# Altium footprint library IC_Microchip_MCP3008I-P_eec_0.PcbLib: 1 footprints
Each footprint in its own frame and in the unit in brackets; x right, y up, seen from the top. Pads: shape width x height; smd on the part's side, far side on the other; paste and mask are expansions set on the pad; w line width, h text height; cw(c..) or ccw(c..) is an arc to the next point about the centre after c.
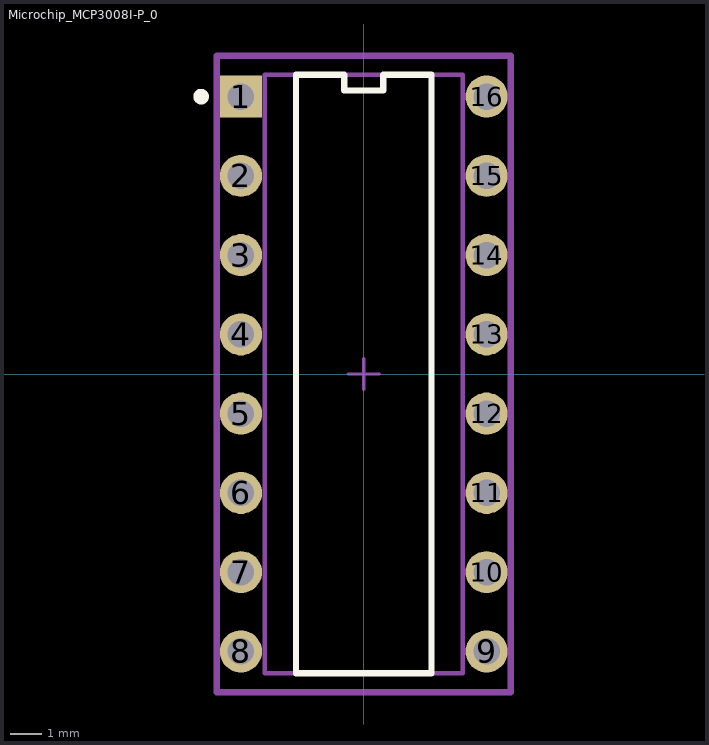
[diagram p0: the footprint, top view; thin cyan lines are the x and y axes]

## Microchip_MCP3008I-P_0 [mm]
pads (16):
  rect 1.35x1.35 hole 0.85 paste-1000 mask+0: 1(-3.937,8.89)
  round 1.35 hole 0.85 paste-1000 mask+0: 2(-3.937,6.35) 3(-3.937,3.81) 4(-3.937,1.27) 5(-3.937,-1.27) 6(-3.937,-3.81) 7(-3.937,-6.35) 8(-3.937,-8.89) 9(3.937,-8.89) 10(3.937,-6.35) 11(3.937,-3.81) 12(3.937,-1.27) 13(3.937,1.27) 14(3.937,3.81) 15(3.937,6.35) 16(3.937,8.89)
Top Overlay:
  circle w0.25: c-5.212,8.89 r0.125
  lines w0.2: -2.175,-9.588 -2.175,9.588 -0.621,9.588 -0.621,9.089 0.621,9.089 0.621,9.588 2.175,9.588 2.175,-9.588 -2.175,-9.588
Mechanical 10:
  lines w0.2: -4.712,-10.196 4.712,-10.196 4.712,10.196 -4.712,10.196 -4.712,-10.196
  text ".Designator" at 0,0 h1
Mechanical 12:
  lines w0.15: -3.175,-9.588 3.175,-9.588 3.175,9.588 -3.175,9.588 -3.175,-9.588
Mechanical 15:
  lines w0.1: -0.5,0 0.5,0 ; 0,-0.5 0,0.5
  lines w0.2: -4.712,-10.196 4.712,-10.196 4.712,10.196 -4.712,10.196 -4.712,-10.196
3D body "3dmodel.step": height 0.25, standoff 0, extent -4.712,-10.196 4.712,10.196